# EAGLE library part SIGHTLINE_DF12B(5.0)-50DS-0.5(86) (library SLA_1500_CAM_V8)
DF12B(5.0)-50DS-0.5(86) DF12 Series 0.5 mm Pitch SMT Board-to-Board Connector (MALE) Specifications Manufacturer: Hirose Manufacturer Part Number: 537-0309-6 86 Operating Temperature Range(C): -45 - 125 Current Rating: 0.3A Voltage Rating: 50V AC Body Size(mm): 14.6 x 3.6 DF12B(5.0)-50DS DATASHEET <https://www.hirose.com/product/en/products/DF12/> Created by: Kimball S. Davis kimball4@pdx.edu <mailto: kimball4@pdx.edu> 21 January 2019 Version 001
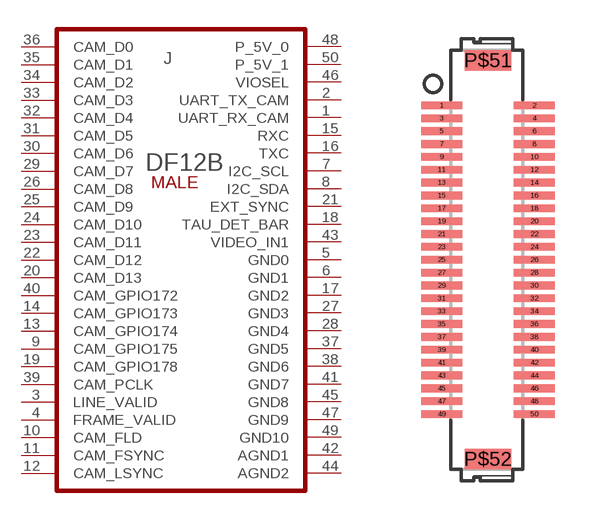
[diagram p1: symbol with the pads of SIGHTLINE_DF12B(5.0)-50DS-0.5V(86); footprint SIGHTLINE_DF12B(5.0)-50DS-0.5V(86)]

Designator prefix J

## SIGHTLINE_DF12B(5.0)-50DS-0.5(86)SMT (DESCRIPTION: DF12B-50DS-0.5V(86) Hirose Male 50-pin connector; MANF: Hirose; MANF#: 537-0309-6 86)  [SIGHTLINE_DF12B(5.0)-50DS-0.5V(86)]
1  UART_RX_CAM
2  UART_TX_CAM
3  LINE_VALID
4  FRAME_VALID
5  GND0
6  GND1
7  I2C_SCL
8  I2C_SDA
9  CAM_GPIO175
10  CAM_FLD  nc
11  CAM_FSYNC
12  CAM_LSYNC
13  CAM_GPIO174
14  CAM_GPIO173
15  RXC
16  TXC
17  GND2
18  TAU_DET_BAR  nc
19  CAM_GPIO178
20  CAM_D13  nc
21  EXT_SYNC  nc
22  CAM_D12  nc
23  CAM_D11
24  CAM_D10
25  CAM_D9
26  CAM_D8
27  GND3
28  GND4
29  CAM_D7
30  CAM_D6
31  CAM_D5
32  CAM_D4
33  CAM_D3
34  CAM_D2
35  CAM_D1
36  CAM_D0
37  GND5
38  GND6
39  CAM_PCLK
40  CAM_GPIO172
41  GND7
42  AGND1
43  VIDEO_IN1  nc
44  AGND2
45  GND8
46  VIOSEL
47  GND9
48  P_5V_0
49  GND10
50  P_5V_1

## Footprint SIGHTLINE_DF12B(5.0)-50DS-0.5V(86) (pad centres in mm)
smd 1.6 x 0.3: 1 -0.001,12; 2 3.599,12; 3 -0.001,11.5; 4 3.599,11.5; 5 -0.001,11; 6 3.599,11; 7 -0.001,10.5; 8 3.599,10.5; 9 -0.001,10; 10 3.599,10; 11 -0.001,9.5; 12 3.599,9.5; 13 -0.001,9; 14 3.599,9; 15 -0.001,8.5; 16 3.599,8.5; 17 -0.001,8; 18 3.599,8; 19 -0.001,7.5; 20 3.599,7.5; 21 -0.001,7; 22 3.599,7; 23 -0.001,6.5; 24 3.599,6.5; 25 -0.001,6; 26 3.599,6; 27 -0.001,5.5; 28 3.599,5.5; 29 -0.001,5; 30 3.599,5; 31 -0.001,4.5; 32 3.599,4.5; 33 -0.001,4; 34 3.599,4; 35 -0.001,3.5; 36 3.599,3.5; 37 -0.001,3; 38 3.599,3; 39 -0.001,2.5; 40 3.599,2.5; 41 -0.001,2; 42 3.599,2; 43 -0.001,1.5; 44 3.599,1.5; 45 -0.001,1; 46 3.599,1; 47 -0.001,0.5; 48 3.599,0.5; 49 -0.001,0; 50 3.599,0
smd 1.8 x 0.8: P$51 1.799,13.75; P$52 1.799,-1.75